# EAGLE library part MTCH6301-I_ML (library MTCH6301-I_ML)
Capacitive Touch Sensors 32KB Flash 8KB RAM, 40 MHz Source: Datasheet <http://www.microchip.com/mymicrochip/filehandler.aspx?ddocname=en560085>
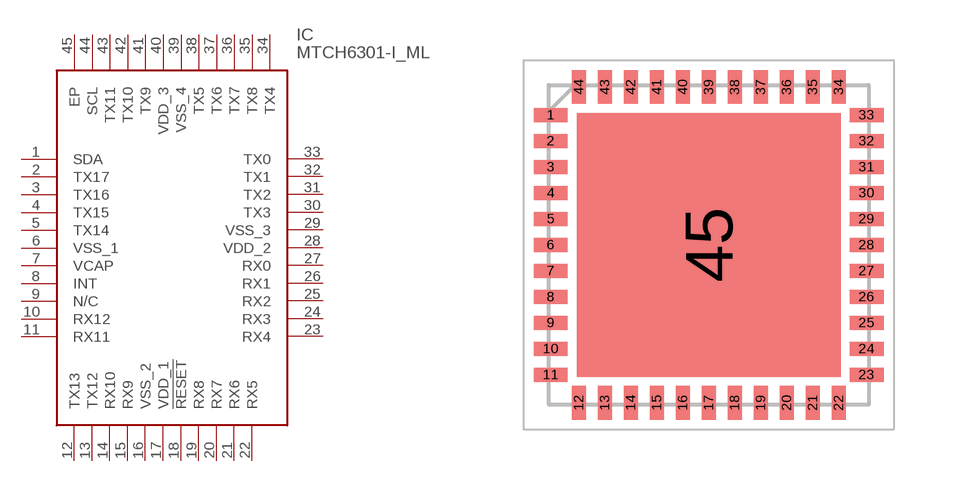
[diagram p0: symbol with the pads of QFN65P800X800X100-45N; footprint QFN65P800X800X100-45N]

Designator prefix IC

## MTCH6301-I_ML (Description: Capacitive Touch Sensors 32KB Flash 8KB RAM, 40 MHz; Height: 1mm; Manufacturer_Name: Microchip; Manufacturer_Part_Number: MTCH6301-I/ML; Mouser_Part_Number: 579-MTCH6301-I/ML; Mouser_Price-Stock: https://www.mouser.co.uk/ProductDetail/Microchip-Technology/MTCH6301-I-ML?qs=VteoEApvSICWu1DtjlRtOA%3D%3D)  [QFN65P800X800X100-45N]
1  SDA
2  TX17
3  TX16
4  TX15
5  TX14
6  VSS_1
7  VCAP
8  INT
9  N/C  nc
10  RX12
11  RX11
12  TX13
13  TX12
14  RX10
15  RX9
16  VSS_2
17  VDD_1
18  !RESET
19  RX8
20  RX7
21  RX6
22  RX5
23  RX4
24  RX3
25  RX2
26  RX1
27  RX0
28  VDD_2
29  VSS_3
30  TX3
31  TX2
32  TX1
33  TX0
34  TX4
35  TX8
36  TX7
37  TX6
38  TX5
39  VSS_4
40  VDD_3
41  TX9
42  TX10
43  TX11
44  SCL
45  EP

## Footprint QFN65P800X800X100-45N (pad centres in mm)
(ML) 44-Lead(QFN)2013ver
smd 0.85 x 0.35: 1 -3.95,3.25; 2 -3.95,2.6; 3 -3.95,1.95; 4 -3.95,1.3; 5 -3.95,0.65; 6 -3.95,0; 7 -3.95,-0.65; 8 -3.95,-1.3; 9 -3.95,-1.95; 10 -3.95,-2.6; 11 -3.95,-3.25; 23 3.95,-3.25; 24 3.95,-2.6; 25 3.95,-1.95; 26 3.95,-1.3; 27 3.95,-0.65; 28 3.95,0; 29 3.95,0.65; 30 3.95,1.3; 31 3.95,1.95; 32 3.95,2.6; 33 3.95,3.25
smd 0.35 x 0.85: 12 -3.25,-3.95; 13 -2.6,-3.95; 14 -1.95,-3.95; 15 -1.3,-3.95; 16 -0.65,-3.95; 17 0,-3.95; 18 0.65,-3.95; 19 1.3,-3.95; 20 1.95,-3.95; 21 2.6,-3.95; 22 3.25,-3.95; 34 3.25,3.95; 35 2.6,3.95; 36 1.95,3.95; 37 1.3,3.95; 38 0.65,3.95; 39 0,3.95; 40 -0.65,3.95; 41 -1.3,3.95; 42 -1.95,3.95; 43 -2.6,3.95; 44 -3.25,3.95
smd 6.6 x 6.6: 45 0,0